# EAGLE library part DSPIC30F3013 (library microcontrollers)
dsPIC Sensor DSC
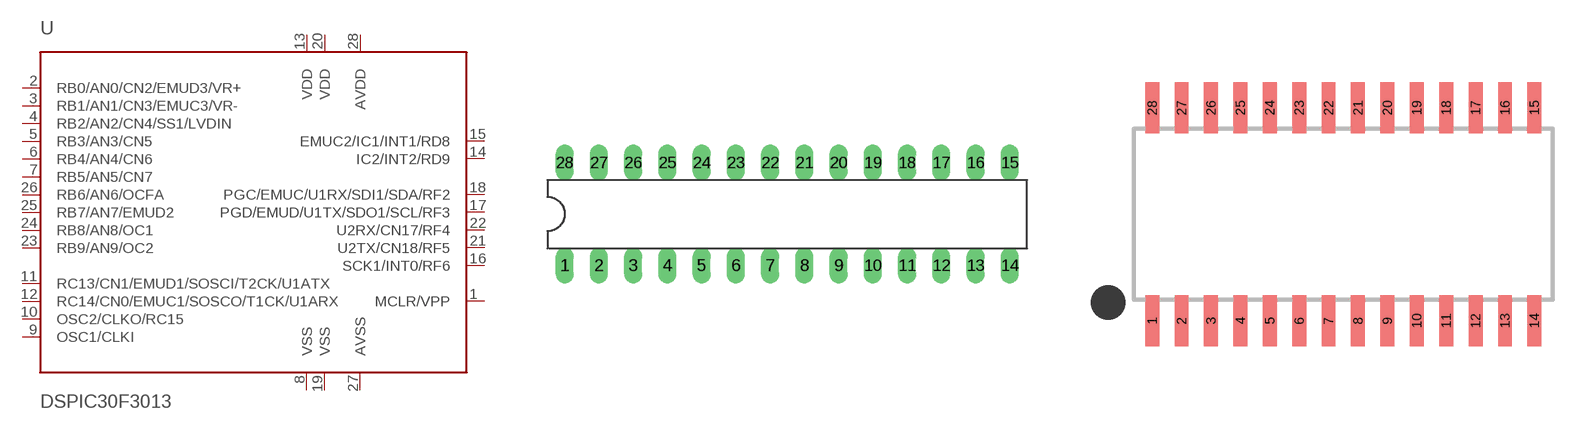
[diagram p5: symbol with the pads of DIP28; footprints DIP28, SOIC28W]

Designator prefix -

## DSPIC30F3013P  [DIP28]
1  MCLR/VPP  in
2  RB0/AN0/CN2/EMUD3/VR+
3  RB1/AN1/CN3/EMUC3/VR-
4  RB2/AN2/CN4/SS1/LVDIN
5  RB3/AN3/CN5
6  RB4/AN4/CN6
7  RB5/AN5/CN7
8  VSS  pwr
9  OSC1/CLKI  in
10  OSC2/CLKO/RC15
11  RC13/CN1/EMUD1/SOSCI/T2CK/U1ATX
12  RC14/CN0/EMUC1/SOSCO/T1CK/U1ARX
13  VDD  pwr
14  IC2/INT2/RD9
15  EMUC2/IC1/INT1/RD8
16  SCK1/INT0/RF6
17  PGD/EMUD/U1TX/SDO1/SCL/RF3
18  PGC/EMUC/U1RX/SDI1/SDA/RF2
19  VSS  pwr
20  VDD  pwr
21  U2TX/CN18/RF5
22  U2RX/CN17/RF4
23  RB9/AN9/OC2
24  RB8/AN8/OC1
25  RB7/AN7/EMUD2
26  RB6/AN6/OCFA
27  AVSS  pwr
28  AVDD  pwr

## DSPIC30F3013S  [SOIC28W]
Pads as for DIP28

## Footprint DIP28 (pad centres in mm)
Dual In Line package type P
drill 0.813 long: 1 -16.51,-3.81; 2 -13.97,-3.81; 3 -11.43,-3.81; 4 -8.89,-3.81; 5 -6.35,-3.81; 6 -3.81,-3.81; 7 -1.27,-3.81; 8 1.27,-3.81; 9 3.81,-3.81; 10 6.35,-3.81; 11 8.89,-3.81; 12 11.43,-3.81; 13 13.97,-3.81; 14 16.51,-3.81; 15 16.51,3.81; 16 13.97,3.81; 17 11.43,3.81; 18 8.89,3.81; 19 6.35,3.81; 20 3.81,3.81; 21 1.27,3.81; 22 -1.27,3.81; 23 -3.81,3.81; 24 -6.35,3.81; 25 -8.89,3.81; 26 -11.43,3.81; 27 -13.97,3.81; 28 -16.51,3.81

## Footprint SOIC28W (pad centres in mm)
Small Outline Package wide
smd 0.6 x 2.2: 1 -8.255,-4.6; 2 -6.985,-4.6; 3 -5.715,-4.6; 4 -4.445,-4.6; 5 -3.175,-4.6; 6 -1.905,-4.6; 7 -0.635,-4.6; 8 0.635,-4.6; 9 1.905,-4.6; 10 3.175,-4.6; 11 4.445,-4.6; 12 5.715,-4.6; 13 6.985,-4.6; 14 8.255,-4.6; 15 8.255,4.6; 16 6.985,4.6; 17 5.715,4.6; 18 4.445,4.6; 19 3.175,4.6; 20 1.905,4.6; 21 0.635,4.6; 22 -0.635,4.6; 23 -1.905,4.6; 24 -3.175,4.6; 25 -4.445,4.6; 26 -5.715,4.6; 27 -6.985,4.6; 28 -8.255,4.6